# Altium footprint library BGA (1.27mm Pitch, Square5).PcbLib: 12 footprints (part 5 of 6)
Each footprint in its own frame and in the unit in brackets; x right, y up, seen from the top. Pads: shape width x height; smd on the part's side, far side on the other; paste and mask are expansions set on the pad; w line width, h text height; cw(c..) or ccw(c..) is an arc to the next point about the centre after c.
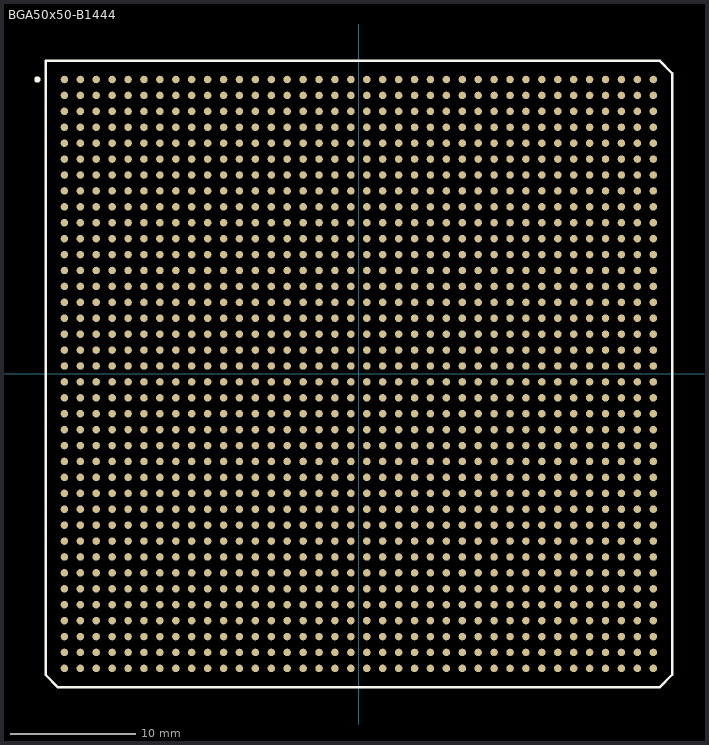
[diagram p4: the footprint, top view; thin cyan lines are the x and y axes]

## BGA50x50-B1444 [mm] "BGA; 1444 Balls; Body 50 x 50 mm; Pitch 1.27 mm"
height 3.5
pads (1444):
  round 0.6 smd: A1(-23.495,23.495) A2(-22.225,23.495) A3(-20.955,23.495) A4(-19.685,23.495) A5(-18.415,23.495) A6(-17.145,23.495) A7(-15.875,23.495) A8(-14.605,23.495) A9(-13.335,23.495) A10(-12.065,23.495) A11(-10.795,23.495) A12(-9.525,23.495) A13(-8.255,23.495) A14(-6.985,23.495) A15(-5.715,23.495) A16(-4.445,23.495) A17(-3.175,23.495) A18(-1.905,23.495) A19(-0.635,23.495) A20(0.635,23.495) A21(1.905,23.495) A22(3.175,23.495) A23(4.445,23.495) A24(5.715,23.495) A25(6.985,23.495) A26(8.255,23.495) A27(9.525,23.495) A28(10.795,23.495) A29(12.065,23.495) A30(13.335,23.495) A31(14.605,23.495) A32(15.875,23.495) A33(17.145,23.495) A34(18.415,23.495) A35(19.685,23.495) A36(20.955,23.495) A37(22.225,23.495) A38(23.495,23.495) AA1(-23.495,-1.905) AA2(-22.225,-1.905) AA3(-20.955,-1.905) AA4(-19.685,-1.905) AA5(-18.415,-1.905) AA6(-17.145,-1.905) AA7(-15.875,-1.905) AA8(-14.605,-1.905) AA9(-13.335,-1.905) AA10(-12.065,-1.905) AA11(-10.795,-1.905) AA12(-9.525,-1.905) AA13(-8.255,-1.905) AA14(-6.985,-1.905) AA15(-5.715,-1.905) AA16(-4.445,-1.905) AA17(-3.175,-1.905) AA18(-1.905,-1.905) AA19(-0.635,-1.905) AA20(0.635,-1.905) AA21(1.905,-1.905) AA22(3.175,-1.905) AA23(4.445,-1.905) AA24(5.715,-1.905) AA25(6.985,-1.905) AA26(8.255,-1.905) AA27(9.525,-1.905) AA28(10.795,-1.905) AA29(12.065,-1.905) AA30(13.335,-1.905) AA31(14.605,-1.905) AA32(15.875,-1.905) AA33(17.145,-1.905) AA34(18.415,-1.905) AA35(19.685,-1.905) AA36(20.955,-1.905) AA37(22.225,-1.905) AA38(23.495,-1.905) AB1(-23.495,-3.175) AB2(-22.225,-3.175) AB3(-20.955,-3.175) AB4(-19.685,-3.175) AB5(-18.415,-3.175) AB6(-17.145,-3.175) AB7(-15.875,-3.175) AB8(-14.605,-3.175) AB9(-13.335,-3.175) AB10(-12.065,-3.175) AB11(-10.795,-3.175) AB12(-9.525,-3.175) AB13(-8.255,-3.175) AB14(-6.985,-3.175) AB15(-5.715,-3.175) AB16(-4.445,-3.175) AB17(-3.175,-3.175) AB18(-1.905,-3.175) AB19(-0.635,-3.175) AB20(0.635,-3.175) AB21(1.905,-3.175) AB22(3.175,-3.175) AB23(4.445,-3.175) AB24(5.715,-3.175) AB25(6.985,-3.175) AB26(8.255,-3.175) AB27(9.525,-3.175) AB28(10.795,-3.175) AB29(12.065,-3.175) AB30(13.335,-3.175) AB31(14.605,-3.175) AB32(15.875,-3.175) AB33(17.145,-3.175) AB34(18.415,-3.175) AB35(19.685,-3.175) AB36(20.955,-3.175) AB37(22.225,-3.175) AB38(23.495,-3.175) AC1(-23.495,-4.445) AC2(-22.225,-4.445) AC3(-20.955,-4.445) AC4(-19.685,-4.445) AC5(-18.415,-4.445) AC6(-17.145,-4.445) AC7(-15.875,-4.445) AC8(-14.605,-4.445) AC9(-13.335,-4.445) AC10(-12.065,-4.445) AC11(-10.795,-4.445) AC12(-9.525,-4.445) AC13(-8.255,-4.445) AC14(-6.985,-4.445) AC15(-5.715,-4.445) AC16(-4.445,-4.445) AC17(-3.175,-4.445) AC18(-1.905,-4.445) AC19(-0.635,-4.445) AC20(0.635,-4.445) AC21(1.905,-4.445) AC22(3.175,-4.445) AC23(4.445,-4.445) AC24(5.715,-4.445) AC25(6.985,-4.445) AC26(8.255,-4.445) AC27(9.525,-4.445) AC28(10.795,-4.445) AC29(12.065,-4.445) AC30(13.335,-4.445) AC31(14.605,-4.445) AC32(15.875,-4.445) AC33(17.145,-4.445) AC34(18.415,-4.445) AC35(19.685,-4.445) AC36(20.955,-4.445) AC37(22.225,-4.445) AC38(23.495,-4.445) AD1(-23.495,-5.715) AD2(-22.225,-5.715) AD3(-20.955,-5.715) AD4(-19.685,-5.715) AD5(-18.415,-5.715) AD6(-17.145,-5.715) AD7(-15.875,-5.715) AD8(-14.605,-5.715) AD9(-13.335,-5.715) AD10(-12.065,-5.715) AD11(-10.795,-5.715) AD12(-9.525,-5.715) AD13(-8.255,-5.715) AD14(-6.985,-5.715) AD15(-5.715,-5.715) AD16(-4.445,-5.715) AD17(-3.175,-5.715) AD18(-1.905,-5.715) AD19(-0.635,-5.715) AD20(0.635,-5.715) AD21(1.905,-5.715) AD22(3.175,-5.715) AD23(4.445,-5.715) AD24(5.715,-5.715) AD25(6.985,-5.715) AD26(8.255,-5.715) AD27(9.525,-5.715) AD28(10.795,-5.715) AD29(12.065,-5.715) AD30(13.335,-5.715) AD31(14.605,-5.715) AD32(15.875,-5.715) AD33(17.145,-5.715) AD34(18.415,-5.715) AD35(19.685,-5.715) AD36(20.955,-5.715) AD37(22.225,-5.715) AD38(23.495,-5.715) AE1(-23.495,-6.985) AE2(-22.225,-6.985) AE3(-20.955,-6.985) AE4(-19.685,-6.985) AE5(-18.415,-6.985) AE6(-17.145,-6.985) AE7(-15.875,-6.985) AE8(-14.605,-6.985) AE9(-13.335,-6.985) AE10(-12.065,-6.985) AE11(-10.795,-6.985) AE12(-9.525,-6.985) AE13(-8.255,-6.985) AE14(-6.985,-6.985) AE15(-5.715,-6.985) AE16(-4.445,-6.985) AE17(-3.175,-6.985) AE18(-1.905,-6.985) AE19(-0.635,-6.985) AE20(0.635,-6.985) AE21(1.905,-6.985) AE22(3.175,-6.985) AE23(4.445,-6.985) AE24(5.715,-6.985) AE25(6.985,-6.985) AE26(8.255,-6.985) AE27(9.525,-6.985) AE28(10.795,-6.985) AE29(12.065,-6.985) AE30(13.335,-6.985) AE31(14.605,-6.985) AE32(15.875,-6.985) AE33(17.145,-6.985) AE34(18.415,-6.985) AE35(19.685,-6.985) AE36(20.955,-6.985) AE37(22.225,-6.985) AE38(23.495,-6.985) AF1(-23.495,-8.255) AF2(-22.225,-8.255) AF3(-20.955,-8.255) AF4(-19.685,-8.255) AF5(-18.415,-8.255) AF6(-17.145,-8.255) AF7(-15.875,-8.255) AF8(-14.605,-8.255) AF9(-13.335,-8.255) AF10(-12.065,-8.255) AF11(-10.795,-8.255) AF12(-9.525,-8.255) AF13(-8.255,-8.255) AF14(-6.985,-8.255) AF15(-5.715,-8.255) AF16(-4.445,-8.255) AF17(-3.175,-8.255) AF18(-1.905,-8.255) AF19(-0.635,-8.255) AF20(0.635,-8.255) AF21(1.905,-8.255) AF22(3.175,-8.255) AF23(4.445,-8.255) AF24(5.715,-8.255) AF25(6.985,-8.255) AF26(8.255,-8.255) AF27(9.525,-8.255) AF28(10.795,-8.255) AF29(12.065,-8.255) AF30(13.335,-8.255) AF31(14.605,-8.255) AF32(15.875,-8.255) AF33(17.145,-8.255) AF34(18.415,-8.255) AF35(19.685,-8.255) AF36(20.955,-8.255) AF37(22.225,-8.255) AF38(23.495,-8.255) AG1(-23.495,-9.525) AG2(-22.225,-9.525) AG3(-20.955,-9.525) AG4(-19.685,-9.525) AG5(-18.415,-9.525) AG6(-17.145,-9.525) AG7(-15.875,-9.525) AG8(-14.605,-9.525) AG9(-13.335,-9.525) AG10(-12.065,-9.525) AG11(-10.795,-9.525) AG12(-9.525,-9.525) AG13(-8.255,-9.525) AG14(-6.985,-9.525) AG15(-5.715,-9.525) AG16(-4.445,-9.525) AG17(-3.175,-9.525) AG18(-1.905,-9.525) AG19(-0.635,-9.525) AG20(0.635,-9.525) AG21(1.905,-9.525) AG22(3.175,-9.525) AG23(4.445,-9.525) AG24(5.715,-9.525) AG25(6.985,-9.525) AG26(8.255,-9.525) AG27(9.525,-9.525) AG28(10.795,-9.525) AG29(12.065,-9.525) AG30(13.335,-9.525) AG31(14.605,-9.525) AG32(15.875,-9.525) AG33(17.145,-9.525) AG34(18.415,-9.525) AG35(19.685,-9.525) AG36(20.955,-9.525) AG37(22.225,-9.525) AG38(23.495,-9.525) AH1(-23.495,-10.795) AH2(-22.225,-10.795) AH3(-20.955,-10.795) AH4(-19.685,-10.795) AH5(-18.415,-10.795) AH6(-17.145,-10.795) AH7(-15.875,-10.795) AH8(-14.605,-10.795) AH9(-13.335,-10.795) AH10(-12.065,-10.795) AH11(-10.795,-10.795) AH12(-9.525,-10.795) AH13(-8.255,-10.795) AH14(-6.985,-10.795) AH15(-5.715,-10.795) AH16(-4.445,-10.795) AH17(-3.175,-10.795) AH18(-1.905,-10.795) AH19(-0.635,-10.795) AH20(0.635,-10.795) AH21(1.905,-10.795) AH22(3.175,-10.795) AH23(4.445,-10.795) AH24(5.715,-10.795) AH25(6.985,-10.795) AH26(8.255,-10.795) AH27(9.525,-10.795) AH28(10.795,-10.795) AH29(12.065,-10.795) AH30(13.335,-10.795) AH31(14.605,-10.795) AH32(15.875,-10.795) AH33(17.145,-10.795) AH34(18.415,-10.795) AH35(19.685,-10.795) AH36(20.955,-10.795) AH37(22.225,-10.795) AH38(23.495,-10.795) AJ1(-23.495,-12.065) AJ2(-22.225,-12.065) AJ3(-20.955,-12.065) AJ4(-19.685,-12.065) AJ5(-18.415,-12.065) AJ6(-17.145,-12.065) AJ7(-15.875,-12.065) AJ8(-14.605,-12.065) AJ9(-13.335,-12.065) AJ10(-12.065,-12.065) AJ11(-10.795,-12.065) AJ12(-9.525,-12.065) AJ13(-8.255,-12.065) AJ14(-6.985,-12.065) AJ15(-5.715,-12.065) AJ16(-4.445,-12.065) AJ17(-3.175,-12.065) AJ18(-1.905,-12.065) AJ19(-0.635,-12.065) AJ20(0.635,-12.065) AJ21(1.905,-12.065) AJ22(3.175,-12.065) AJ23(4.445,-12.065) AJ24(5.715,-12.065) AJ25(6.985,-12.065) AJ26(8.255,-12.065) AJ27(9.525,-12.065) AJ28(10.795,-12.065) AJ29(12.065,-12.065) AJ30(13.335,-12.065) AJ31(14.605,-12.065) AJ32(15.875,-12.065) AJ33(17.145,-12.065) AJ34(18.415,-12.065) AJ35(19.685,-12.065) AJ36(20.955,-12.065) AJ37(22.225,-12.065) AJ38(23.495,-12.065) AK1(-23.495,-13.335) AK2(-22.225,-13.335) AK3(-20.955,-13.335) AK4(-19.685,-13.335) AK5(-18.415,-13.335) AK6(-17.145,-13.335) AK7(-15.875,-13.335) AK8(-14.605,-13.335) AK9(-13.335,-13.335) AK10(-12.065,-13.335) AK11(-10.795,-13.335) AK12(-9.525,-13.335) AK13(-8.255,-13.335) AK14(-6.985,-13.335) AK15(-5.715,-13.335) AK16(-4.445,-13.335) AK17(-3.175,-13.335) AK18(-1.905,-13.335) AK19(-0.635,-13.335) AK20(0.635,-13.335) AK21(1.905,-13.335) AK22(3.175,-13.335) AK23(4.445,-13.335) AK24(5.715,-13.335) AK25(6.985,-13.335) AK26(8.255,-13.335) AK27(9.525,-13.335) AK28(10.795,-13.335) AK29(12.065,-13.335) AK30(13.335,-13.335) AK31(14.605,-13.335) AK32(15.875,-13.335) AK33(17.145,-13.335) AK34(18.415,-13.335) AK35(19.685,-13.335) AK36(20.955,-13.335) AK37(22.225,-13.335) AK38(23.495,-13.335) AL1(-23.495,-14.605) AL2(-22.225,-14.605) AL3(-20.955,-14.605) AL4(-19.685,-14.605) AL5(-18.415,-14.605) AL6(-17.145,-14.605) AL7(-15.875,-14.605) AL8(-14.605,-14.605) AL9(-13.335,-14.605) AL10(-12.065,-14.605) AL11(-10.795,-14.605) AL12(-9.525,-14.605) AL13(-8.255,-14.605) AL14(-6.985,-14.605) AL15(-5.715,-14.605) AL16(-4.445,-14.605) AL17(-3.175,-14.605) AL18(-1.905,-14.605) AL19(-0.635,-14.605) AL20(0.635,-14.605) AL21(1.905,-14.605) AL22(3.175,-14.605) AL23(4.445,-14.605) AL24(5.715,-14.605) AL25(6.985,-14.605) AL26(8.255,-14.605) AL27(9.525,-14.605) AL28(10.795,-14.605) AL29(12.065,-14.605) AL30(13.335,-14.605) AL31(14.605,-14.605) AL32(15.875,-14.605) AL33(17.145,-14.605) AL34(18.415,-14.605) AL35(19.685,-14.605) AL36(20.955,-14.605) AL37(22.225,-14.605) AL38(23.495,-14.605) AM1(-23.495,-15.875) AM2(-22.225,-15.875) AM3(-20.955,-15.875) AM4(-19.685,-15.875) AM5(-18.415,-15.875) AM6(-17.145,-15.875) AM7(-15.875,-15.875) AM8(-14.605,-15.875) AM9(-13.335,-15.875) AM10(-12.065,-15.875) AM11(-10.795,-15.875) AM12(-9.525,-15.875) AM13(-8.255,-15.875) AM14(-6.985,-15.875) AM15(-5.715,-15.875) AM16(-4.445,-15.875) AM17(-3.175,-15.875) AM18(-1.905,-15.875) AM19(-0.635,-15.875) AM20(0.635,-15.875) AM21(1.905,-15.875) AM22(3.175,-15.875) AM23(4.445,-15.875) AM24(5.715,-15.875) AM25(6.985,-15.875) AM26(8.255,-15.875) AM27(9.525,-15.875) AM28(10.795,-15.875) AM29(12.065,-15.875) AM30(13.335,-15.875) AM31(14.605,-15.875) AM32(15.875,-15.875) AM33(17.145,-15.875) AM34(18.415,-15.875) AM35(19.685,-15.875) AM36(20.955,-15.875) AM37(22.225,-15.875) AM38(23.495,-15.875) AN1(-23.495,-17.145) AN2(-22.225,-17.145) AN3(-20.955,-17.145) AN4(-19.685,-17.145) AN5(-18.415,-17.145) AN6(-17.145,-17.145) AN7(-15.875,-17.145) AN8(-14.605,-17.145) AN9(-13.335,-17.145) AN10(-12.065,-17.145) AN11(-10.795,-17.145) AN12(-9.525,-17.145) AN13(-8.255,-17.145) AN14(-6.985,-17.145) AN15(-5.715,-17.145) AN16(-4.445,-17.145) AN17(-3.175,-17.145) AN18(-1.905,-17.145) AN19(-0.635,-17.145) AN20(0.635,-17.145) AN21(1.905,-17.145) AN22(3.175,-17.145) AN23(4.445,-17.145) AN24(5.715,-17.145) AN25(6.985,-17.145) AN26(8.255,-17.145) AN27(9.525,-17.145) AN28(10.795,-17.145) AN29(12.065,-17.145) AN30(13.335,-17.145) AN31(14.605,-17.145) AN32(15.875,-17.145) AN33(17.145,-17.145) AN34(18.415,-17.145) AN35(19.685,-17.145) AN36(20.955,-17.145) AN37(22.225,-17.145) AN38(23.495,-17.145) AP1(-23.495,-18.415) AP2(-22.225,-18.415) AP3(-20.955,-18.415) AP4(-19.685,-18.415) AP5(-18.415,-18.415) AP6(-17.145,-18.415) AP7(-15.875,-18.415) AP8(-14.605,-18.415) AP9(-13.335,-18.415) AP10(-12.065,-18.415) AP11(-10.795,-18.415) AP12(-9.525,-18.415) AP13(-8.255,-18.415) AP14(-6.985,-18.415) AP15(-5.715,-18.415) AP16(-4.445,-18.415) AP17(-3.175,-18.415) AP18(-1.905,-18.415) AP19(-0.635,-18.415) AP20(0.635,-18.415) AP21(1.905,-18.415) AP22(3.175,-18.415) AP23(4.445,-18.415) AP24(5.715,-18.415) AP25(6.985,-18.415) AP26(8.255,-18.415) AP27(9.525,-18.415) AP28(10.795,-18.415) AP29(12.065,-18.415) AP30(13.335,-18.415) AP31(14.605,-18.415) AP32(15.875,-18.415) AP33(17.145,-18.415) AP34(18.415,-18.415) AP35(19.685,-18.415) AP36(20.955,-18.415) AP37(22.225,-18.415) AP38(23.495,-18.415) AR1(-23.495,-19.685) AR2(-22.225,-19.685) AR3(-20.955,-19.685) AR4(-19.685,-19.685) AR5(-18.415,-19.685) AR6(-17.145,-19.685) AR7(-15.875,-19.685) AR8(-14.605,-19.685) AR9(-13.335,-19.685) AR10(-12.065,-19.685) AR11(-10.795,-19.685) AR12(-9.525,-19.685) AR13(-8.255,-19.685) AR14(-6.985,-19.685) AR15(-5.715,-19.685) AR16(-4.445,-19.685) AR17(-3.175,-19.685) AR18(-1.905,-19.685) AR19(-0.635,-19.685) AR20(0.635,-19.685) AR21(1.905,-19.685) AR22(3.175,-19.685) AR23(4.445,-19.685) AR24(5.715,-19.685) AR25(6.985,-19.685) AR26(8.255,-19.685) AR27(9.525,-19.685) AR28(10.795,-19.685) AR29(12.065,-19.685) AR30(13.335,-19.685) AR31(14.605,-19.685) AR32(15.875,-19.685) AR33(17.145,-19.685) AR34(18.415,-19.685) AR35(19.685,-19.685) AR36(20.955,-19.685) AR37(22.225,-19.685) AR38(23.495,-19.685) AT1(-23.495,-20.955) AT2(-22.225,-20.955) AT3(-20.955,-20.955) AT4(-19.685,-20.955) AT5(-18.415,-20.955) AT6(-17.145,-20.955) AT7(-15.875,-20.955) AT8(-14.605,-20.955) AT9(-13.335,-20.955) AT10(-12.065,-20.955) AT11(-10.795,-20.955) AT12(-9.525,-20.955) AT13(-8.255,-20.955) AT14(-6.985,-20.955) AT15(-5.715,-20.955) AT16(-4.445,-20.955) AT17(-3.175,-20.955) AT18(-1.905,-20.955) AT19(-0.635,-20.955) AT20(0.635,-20.955) AT21(1.905,-20.955) AT22(3.175,-20.955) AT23(4.445,-20.955) AT24(5.715,-20.955) AT25(6.985,-20.955) AT26(8.255,-20.955) AT27(9.525,-20.955) AT28(10.795,-20.955) AT29(12.065,-20.955) AT30(13.335,-20.955) AT31(14.605,-20.955) AT32(15.875,-20.955) AT33(17.145,-20.955) AT34(18.415,-20.955) AT35(19.685,-20.955) AT36(20.955,-20.955) AT37(22.225,-20.955) AT38(23.495,-20.955) AU1(-23.495,-22.225) AU2(-22.225,-22.225) AU3(-20.955,-22.225) AU4(-19.685,-22.225) AU5(-18.415,-22.225) AU6(-17.145,-22.225) AU7(-15.875,-22.225) AU8(-14.605,-22.225) AU9(-13.335,-22.225) AU10(-12.065,-22.225) AU11(-10.795,-22.225) AU12(-9.525,-22.225) AU13(-8.255,-22.225) AU14(-6.985,-22.225) AU15(-5.715,-22.225) AU16(-4.445,-22.225) AU17(-3.175,-22.225) AU18(-1.905,-22.225) AU19(-0.635,-22.225) AU20(0.635,-22.225) AU21(1.905,-22.225) AU22(3.175,-22.225) AU23(4.445,-22.225) AU24(5.715,-22.225) AU25(6.985,-22.225) AU26(8.255,-22.225) AU27(9.525,-22.225) AU28(10.795,-22.225) AU29(12.065,-22.225) AU30(13.335,-22.225) AU31(14.605,-22.225) AU32(15.875,-22.225) AU33(17.145,-22.225) AU34(18.415,-22.225) AU35(19.685,-22.225) AU36(20.955,-22.225) AU37(22.225,-22.225) AU38(23.495,-22.225) AV1(-23.495,-23.495) AV2(-22.225,-23.495) AV3(-20.955,-23.495) AV4(-19.685,-23.495) AV5(-18.415,-23.495) AV6(-17.145,-23.495) AV7(-15.875,-23.495) AV8(-14.605,-23.495) AV9(-13.335,-23.495) AV10(-12.065,-23.495) AV11(-10.795,-23.495) AV12(-9.525,-23.495) AV13(-8.255,-23.495) AV14(-6.985,-23.495) AV15(-5.715,-23.495) AV16(-4.445,-23.495) AV17(-3.175,-23.495) AV18(-1.905,-23.495) AV19(-0.635,-23.495) AV20(0.635,-23.495) AV21(1.905,-23.495) AV22(3.175,-23.495) AV23(4.445,-23.495) AV24(5.715,-23.495) AV25(6.985,-23.495) AV26(8.255,-23.495) AV27(9.525,-23.495) AV28(10.795,-23.495) AV29(12.065,-23.495) AV30(13.335,-23.495) AV31(14.605,-23.495) AV32(15.875,-23.495) AV33(17.145,-23.495) AV34(18.415,-23.495) AV35(19.685,-23.495) AV36(20.955,-23.495) AV37(22.225,-23.495) AV38(23.495,-23.495) B1(-23.495,22.225) B2(-22.225,22.225) B3(-20.955,22.225) B4(-19.685,22.225) B5(-18.415,22.225) B6(-17.145,22.225) B7(-15.875,22.225) B8(-14.605,22.225) B9(-13.335,22.225) B10(-12.065,22.225) B11(-10.795,22.225) B12(-9.525,22.225) B13(-8.255,22.225) B14(-6.985,22.225) B15(-5.715,22.225) B16(-4.445,22.225) B17(-3.175,22.225) B18(-1.905,22.225) B19(-0.635,22.225) B20(0.635,22.225) B21(1.905,22.225) B22(3.175,22.225) B23(4.445,22.225) B24(5.715,22.225) B25(6.985,22.225) B26(8.255,22.225) B27(9.525,22.225) B28(10.795,22.225) B29(12.065,22.225) B30(13.335,22.225) B31(14.605,22.225) B32(15.875,22.225) B33(17.145,22.225) B34(18.415,22.225) B35(19.685,22.225) B36(20.955,22.225) B37(22.225,22.225) B38(23.495,22.225) C1(-23.495,20.955) C2(-22.225,20.955) C3(-20.955,20.955) C4(-19.685,20.955) C5(-18.415,20.955) C6(-17.145,20.955) C7(-15.875,20.955) C8(-14.605,20.955) C9(-13.335,20.955) C10(-12.065,20.955) C11(-10.795,20.955) C12(-9.525,20.955) C13(-8.255,20.955) C14(-6.985,20.955) C15(-5.715,20.955) C16(-4.445,20.955) C17(-3.175,20.955) C18(-1.905,20.955) C19(-0.635,20.955) C20(0.635,20.955) C21(1.905,20.955) C22(3.175,20.955) C23(4.445,20.955) C24(5.715,20.955) C25(6.985,20.955) C26(8.255,20.955) C27(9.525,20.955) C28(10.795,20.955) C29(12.065,20.955) C30(13.335,20.955) C31(14.605,20.955) C32(15.875,20.955) C33(17.145,20.955) C34(18.415,20.955) C35(19.685,20.955) C36(20.955,20.955) C37(22.225,20.955) C38(23.495,20.955) D1(-23.495,19.685) D2(-22.225,19.685) D3(-20.955,19.685) D4(-19.685,19.685) D5(-18.415,19.685) D6(-17.145,19.685) D7(-15.875,19.685) D8(-14.605,19.685) D9(-13.335,19.685) D10(-12.065,19.685) D11(-10.795,19.685) D12(-9.525,19.685) D13(-8.255,19.685) D14(-6.985,19.685) D15(-5.715,19.685) D16(-4.445,19.685) D17(-3.175,19.685) D18(-1.905,19.685) D19(-0.635,19.685) D20(0.635,19.685) D21(1.905,19.685) D22(3.175,19.685) D23(4.445,19.685) D24(5.715,19.685) D25(6.985,19.685) D26(8.255,19.685) D27(9.525,19.685) D28(10.795,19.685) D29(12.065,19.685) D30(13.335,19.685) D31(14.605,19.685) D32(15.875,19.685) D33(17.145,19.685) D34(18.415,19.685) D35(19.685,19.685) D36(20.955,19.685) D37(22.225,19.685) D38(23.495,19.685) E1(-23.495,18.415) E2(-22.225,18.415) E3(-20.955,18.415) E4(-19.685,18.415) E5(-18.415,18.415) E6(-17.145,18.415) E7(-15.875,18.415) E8(-14.605,18.415) E9(-13.335,18.415) E10(-12.065,18.415) E11(-10.795,18.415) E12(-9.525,18.415) E13(-8.255,18.415) E14(-6.985,18.415) E15(-5.715,18.415) E16(-4.445,18.415) E17(-3.175,18.415) E18(-1.905,18.415) E19(-0.635,18.415) E20(0.635,18.415) E21(1.905,18.415) E22(3.175,18.415) E23(4.445,18.415) E24(5.715,18.415) E25(6.985,18.415) E26(8.255,18.415) E27(9.525,18.415) E28(10.795,18.415) E29(12.065,18.415) E30(13.335,18.415) E31(14.605,18.415) E32(15.875,18.415) E33(17.145,18.415) E34(18.415,18.415) E35(19.685,18.415) E36(20.955,18.415) E37(22.225,18.415) E38(23.495,18.415) F1(-23.495,17.145) F2(-22.225,17.145) F3(-20.955,17.145) F4(-19.685,17.145) F5(-18.415,17.145) F6(-17.145,17.145) F7(-15.875,17.145) F8(-14.605,17.145) F9(-13.335,17.145) F10(-12.065,17.145) F11(-10.795,17.145) F12(-9.525,17.145) F13(-8.255,17.145) F14(-6.985,17.145) F15(-5.715,17.145) F16(-4.445,17.145) F17(-3.175,17.145) F18(-1.905,17.145) F19(-0.635,17.145) F20(0.635,17.145) F21(1.905,17.145) F22(3.175,17.145) F23(4.445,17.145) F24(5.715,17.145) F25(6.985,17.145) F26(8.255,17.145) F27(9.525,17.145) F28(10.795,17.145) F29(12.065,17.145) F30(13.335,17.145) F31(14.605,17.145) F32(15.875,17.145) F33(17.145,17.145) F34(18.415,17.145) F35(19.685,17.145) F36(20.955,17.145) F37(22.225,17.145) F38(23.495,17.145) G1(-23.495,15.875) G2(-22.225,15.875) G3(-20.955,15.875) G4(-19.685,15.875) G5(-18.415,15.875) G6(-17.145,15.875) G7(-15.875,15.875) G8(-14.605,15.875) G9(-13.335,15.875) G10(-12.065,15.875) G11(-10.795,15.875) G12(-9.525,15.875) G13(-8.255,15.875) G14(-6.985,15.875) G15(-5.715,15.875) G16(-4.445,15.875) G17(-3.175,15.875) G18(-1.905,15.875) G19(-0.635,15.875) G20(0.635,15.875) G21(1.905,15.875) G22(3.175,15.875) G23(4.445,15.875) G24(5.715,15.875) G25(6.985,15.875) G26(8.255,15.875) G27(9.525,15.875) G28(10.795,15.875) G29(12.065,15.875) G30(13.335,15.875) G31(14.605,15.875) G32(15.875,15.875) G33(17.145,15.875) G34(18.415,15.875) G35(19.685,15.875) G36(20.955,15.875) G37(22.225,15.875) G38(23.495,15.875) H1(-23.495,14.605) H2(-22.225,14.605) H3(-20.955,14.605) H4(-19.685,14.605) H5(-18.415,14.605) H6(-17.145,14.605) H7(-15.875,14.605) H8(-14.605,14.605) H9(-13.335,14.605) H10(-12.065,14.605) H11(-10.795,14.605) H12(-9.525,14.605) H13(-8.255,14.605) H14(-6.985,14.605) H15(-5.715,14.605) H16(-4.445,14.605) H17(-3.175,14.605) H18(-1.905,14.605) H19(-0.635,14.605) H20(0.635,14.605) H21(1.905,14.605) H22(3.175,14.605) H23(4.445,14.605) H24(5.715,14.605) H25(6.985,14.605) H26(8.255,14.605) H27(9.525,14.605) H28(10.795,14.605) H29(12.065,14.605) H30(13.335,14.605) H31(14.605,14.605) H32(15.875,14.605) H33(17.145,14.605) H34(18.415,14.605) H35(19.685,14.605) H36(20.955,14.605) H37(22.225,14.605) H38(23.495,14.605) J1(-23.495,13.335) J2(-22.225,13.335) J3(-20.955,13.335) J4(-19.685,13.335) J5(-18.415,13.335) J6(-17.145,13.335) J7(-15.875,13.335) J8(-14.605,13.335) J9(-13.335,13.335) J10(-12.065,13.335) J11(-10.795,13.335) J12(-9.525,13.335) J13(-8.255,13.335) J14(-6.985,13.335) J15(-5.715,13.335) J16(-4.445,13.335) J17(-3.175,13.335) J18(-1.905,13.335) J19(-0.635,13.335) J20(0.635,13.335) J21(1.905,13.335) J22(3.175,13.335) J23(4.445,13.335) J24(5.715,13.335) J25(6.985,13.335) J26(8.255,13.335) J27(9.525,13.335) J28(10.795,13.335) J29(12.065,13.335) J30(13.335,13.335) J31(14.605,13.335) J32(15.875,13.335) J33(17.145,13.335) J34(18.415,13.335) J35(19.685,13.335) J36(20.955,13.335) J37(22.225,13.335) J38(23.495,13.335) K1(-23.495,12.065) K2(-22.225,12.065) K3(-20.955,12.065) K4(-19.685,12.065) K5(-18.415,12.065) K6(-17.145,12.065) K7(-15.875,12.065) K8(-14.605,12.065) K9(-13.335,12.065) K10(-12.065,12.065) K11(-10.795,12.065) K12(-9.525,12.065) K13(-8.255,12.065) K14(-6.985,12.065) K15(-5.715,12.065) K16(-4.445,12.065) K17(-3.175,12.065) K18(-1.905,12.065) K19(-0.635,12.065) K20(0.635,12.065) K21(1.905,12.065) K22(3.175,12.065) K23(4.445,12.065) K24(5.715,12.065) K25(6.985,12.065) K26(8.255,12.065) K27(9.525,12.065) K28(10.795,12.065) K29(12.065,12.065) K30(13.335,12.065) K31(14.605,12.065) K32(15.875,12.065) K33(17.145,12.065) K34(18.415,12.065) K35(19.685,12.065) K36(20.955,12.065) K37(22.225,12.065) K38(23.495,12.065) L1(-23.495,10.795) L2(-22.225,10.795) L3(-20.955,10.795) L4(-19.685,10.795) L5(-18.415,10.795) L6(-17.145,10.795) L7(-15.875,10.795) L8(-14.605,10.795) L9(-13.335,10.795) L10(-12.065,10.795) L11(-10.795,10.795) L12(-9.525,10.795) L13(-8.255,10.795) L14(-6.985,10.795) L15(-5.715,10.795) L16(-4.445,10.795) L17(-3.175,10.795) L18(-1.905,10.795) L19(-0.635,10.795) L20(0.635,10.795) L21(1.905,10.795) L22(3.175,10.795) L23(4.445,10.795) L24(5.715,10.795) L25(6.985,10.795) L26(8.255,10.795) L27(9.525,10.795) L28(10.795,10.795) L29(12.065,10.795) L30(13.335,10.795) L31(14.605,10.795) L32(15.875,10.795) L33(17.145,10.795) L34(18.415,10.795) L35(19.685,10.795) L36(20.955,10.795) L37(22.225,10.795) L38(23.495,10.795) M1(-23.495,9.525) M2(-22.225,9.525) M3(-20.955,9.525) M4(-19.685,9.525) M5(-18.415,9.525) M6(-17.145,9.525) M7(-15.875,9.525) M8(-14.605,9.525) M9(-13.335,9.525) M10(-12.065,9.525) M11(-10.795,9.525) M12(-9.525,9.525) M13(-8.255,9.525) M14(-6.985,9.525) M15(-5.715,9.525) M16(-4.445,9.525) M17(-3.175,9.525) M18(-1.905,9.525) M19(-0.635,9.525) M20(0.635,9.525) M21(1.905,9.525) M22(3.175,9.525) M23(4.445,9.525) M24(5.715,9.525) M25(6.985,9.525) M26(8.255,9.525) M27(9.525,9.525) M28(10.795,9.525) M29(12.065,9.525) M30(13.335,9.525) M31(14.605,9.525) M32(15.875,9.525) M33(17.145,9.525) M34(18.415,9.525) M35(19.685,9.525) M36(20.955,9.525) M37(22.225,9.525) M38(23.495,9.525) N1(-23.495,8.255) N2(-22.225,8.255) N3(-20.955,8.255) N4(-19.685,8.255) N5(-18.415,8.255) N6(-17.145,8.255) N7(-15.875,8.255) N8(-14.605,8.255) N9(-13.335,8.255) N10(-12.065,8.255) N11(-10.795,8.255) N12(-9.525,8.255) N13(-8.255,8.255) N14(-6.985,8.255) N15(-5.715,8.255) N16(-4.445,8.255) N17(-3.175,8.255) N18(-1.905,8.255) N19(-0.635,8.255) N20(0.635,8.255) N21(1.905,8.255) N22(3.175,8.255) N23(4.445,8.255) N24(5.715,8.255) N25(6.985,8.255) N26(8.255,8.255) N27(9.525,8.255) N28(10.795,8.255) N29(12.065,8.255) N30(13.335,8.255) N31(14.605,8.255) N32(15.875,8.255) N33(17.145,8.255) N34(18.415,8.255) N35(19.685,8.255) N36(20.955,8.255) N37(22.225,8.255) N38(23.495,8.255) P1(-23.495,6.985) P2(-22.225,6.985) P3(-20.955,6.985) P4(-19.685,6.985) P5(-18.415,6.985) P6(-17.145,6.985) P7(-15.875,6.985) P8(-14.605,6.985) P9(-13.335,6.985) P10(-12.065,6.985) P11(-10.795,6.985) P12(-9.525,6.985) P13(-8.255,6.985) P14(-6.985,6.985) P15(-5.715,6.985) P16(-4.445,6.985) P17(-3.175,6.985) P18(-1.905,6.985) P19(-0.635,6.985) P20(0.635,6.985) P21(1.905,6.985) P22(3.175,6.985) P23(4.445,6.985) P24(5.715,6.985) P25(6.985,6.985) P26(8.255,6.985) P27(9.525,6.985) P28(10.795,6.985) P29(12.065,6.985) P30(13.335,6.985) P31(14.605,6.985) P32(15.875,6.985) P33(17.145,6.985) P34(18.415,6.985) P35(19.685,6.985) P36(20.955,6.985) P37(22.225,6.985) P38(23.495,6.985) R1(-23.495,5.715) R2(-22.225,5.715) R3(-20.955,5.715) R4(-19.685,5.715) R5(-18.415,5.715) R6(-17.145,5.715) R7(-15.875,5.715) R8(-14.605,5.715) R9(-13.335,5.715) R10(-12.065,5.715) R11(-10.795,5.715) R12(-9.525,5.715) R13(-8.255,5.715) R14(-6.985,5.715) R15(-5.715,5.715) R16(-4.445,5.715) R17(-3.175,5.715) R18(-1.905,5.715) R19(-0.635,5.715) R20(0.635,5.715) R21(1.905,5.715) R22(3.175,5.715) R23(4.445,5.715) R24(5.715,5.715) R25(6.985,5.715) R26(8.255,5.715) R27(9.525,5.715) R28(10.795,5.715) R29(12.065,5.715) R30(13.335,5.715) R31(14.605,5.715) R32(15.875,5.715) R33(17.145,5.715) R34(18.415,5.715) R35(19.685,5.715) R36(20.955,5.715) R37(22.225,5.715) R38(23.495,5.715) T1(-23.495,4.445) T2(-22.225,4.445) T3(-20.955,4.445) T4(-19.685,4.445) T5(-18.415,4.445) T6(-17.145,4.445) T7(-15.875,4.445) T8(-14.605,4.445) T9(-13.335,4.445) T10(-12.065,4.445) T11(-10.795,4.445) T12(-9.525,4.445) T13(-8.255,4.445) T14(-6.985,4.445) T15(-5.715,4.445) T16(-4.445,4.445) T17(-3.175,4.445) T18(-1.905,4.445) T19(-0.635,4.445) T20(0.635,4.445) T21(1.905,4.445) T22(3.175,4.445) T23(4.445,4.445) T24(5.715,4.445) T25(6.985,4.445) T26(8.255,4.445) T27(9.525,4.445) T28(10.795,4.445) T29(12.065,4.445) T30(13.335,4.445) T31(14.605,4.445) T32(15.875,4.445) T33(17.145,4.445) T34(18.415,4.445) T35(19.685,4.445) T36(20.955,4.445) T37(22.225,4.445) T38(23.495,4.445) U1(-23.495,3.175) U2(-22.225,3.175) U3(-20.955,3.175) U4(-19.685,3.175) U5(-18.415,3.175) U6(-17.145,3.175) U7(-15.875,3.175) U8(-14.605,3.175) U9(-13.335,3.175) U10(-12.065,3.175) U11(-10.795,3.175) U12(-9.525,3.175) U13(-8.255,3.175) U14(-6.985,3.175) U15(-5.715,3.175) U16(-4.445,3.175) U17(-3.175,3.175) U18(-1.905,3.175) U19(-0.635,3.175) U20(0.635,3.175) U21(1.905,3.175) U22(3.175,3.175) U23(4.445,3.175) U24(5.715,3.175) U25(6.985,3.175) U26(8.255,3.175) U27(9.525,3.175) U28(10.795,3.175) U29(12.065,3.175) U30(13.335,3.175) U31(14.605,3.175) U32(15.875,3.175) U33(17.145,3.175) U34(18.415,3.175) U35(19.685,3.175) U36(20.955,3.175) U37(22.225,3.175) U38(23.495,3.175) V1(-23.495,1.905) V2(-22.225,1.905) V3(-20.955,1.905) V4(-19.685,1.905) V5(-18.415,1.905) V6(-17.145,1.905) V7(-15.875,1.905) V8(-14.605,1.905) V9(-13.335,1.905) V10(-12.065,1.905) V11(-10.795,1.905) V12(-9.525,1.905) V13(-8.255,1.905) V14(-6.985,1.905) V15(-5.715,1.905) V16(-4.445,1.905) V17(-3.175,1.905) V18(-1.905,1.905) V19(-0.635,1.905) V20(0.635,1.905) V21(1.905,1.905) V22(3.175,1.905) V23(4.445,1.905) V24(5.715,1.905) V25(6.985,1.905) V26(8.255,1.905) V27(9.525,1.905) V28(10.795,1.905) V29(12.065,1.905) V30(13.335,1.905) V31(14.605,1.905) V32(15.875,1.905) V33(17.145,1.905) V34(18.415,1.905) V35(19.685,1.905) V36(20.955,1.905) V37(22.225,1.905) V38(23.495,1.905) W1(-23.495,0.635) W2(-22.225,0.635) W3(-20.955,0.635) W4(-19.685,0.635) W5(-18.415,0.635) W6(-17.145,0.635) W7(-15.875,0.635) W8(-14.605,0.635) W9(-13.335,0.635) W10(-12.065,0.635) W11(-10.795,0.635) W12(-9.525,0.635) W13(-8.255,0.635) W14(-6.985,0.635) W15(-5.715,0.635) W16(-4.445,0.635) W17(-3.175,0.635) W18(-1.905,0.635) W19(-0.635,0.635) W20(0.635,0.635) W21(1.905,0.635) W22(3.175,0.635) W23(4.445,0.635) W24(5.715,0.635) W25(6.985,0.635) W26(8.255,0.635) W27(9.525,0.635) W28(10.795,0.635) W29(12.065,0.635) W30(13.335,0.635) W31(14.605,0.635) W32(15.875,0.635) W33(17.145,0.635) W34(18.415,0.635) W35(19.685,0.635) W36(20.955,0.635) W37(22.225,0.635) W38(23.495,0.635) Y1(-23.495,-0.635) Y2(-22.225,-0.635) Y3(-20.955,-0.635) Y4(-19.685,-0.635) Y5(-18.415,-0.635) Y6(-17.145,-0.635) Y7(-15.875,-0.635) Y8(-14.605,-0.635) Y9(-13.335,-0.635) Y10(-12.065,-0.635) Y11(-10.795,-0.635) Y12(-9.525,-0.635) Y13(-8.255,-0.635) Y14(-6.985,-0.635) Y15(-5.715,-0.635) Y16(-4.445,-0.635) Y17(-3.175,-0.635) Y18(-1.905,-0.635) Y19(-0.635,-0.635) Y20(0.635,-0.635) Y21(1.905,-0.635) Y22(3.175,-0.635) Y23(4.445,-0.635) Y24(5.715,-0.635) Y25(6.985,-0.635) Y26(8.255,-0.635) Y27(9.525,-0.635) Y28(10.795,-0.635) Y29(12.065,-0.635) Y30(13.335,-0.635) Y31(14.605,-0.635) Y32(15.875,-0.635) Y33(17.145,-0.635) Y34(18.415,-0.635) Y35(19.685,-0.635) Y36(20.955,-0.635) Y37(22.225,-0.635) Y38(23.495,-0.635)
Top Overlay:
  circle w0.25: c-25.65,23.495 r0.125
  lines w0.2: -24.995,-24.005 -23.995,-25.005 24.005,-25.005 25.005,-24.005 25.005,23.995 24.005,24.995 -24.995,24.995 -24.995,-24.005